# Altium footprint library base.PcbLib: 29 footprints (part 2 of 2)
Each footprint in its own frame and in the unit in brackets; x right, y up, seen from the top. Pads: shape width x height; smd on the part's side, far side on the other; paste and mask are expansions set on the pad; w line width, h text height; cw(c..) or ccw(c..) is an arc to the next point about the centre after c.
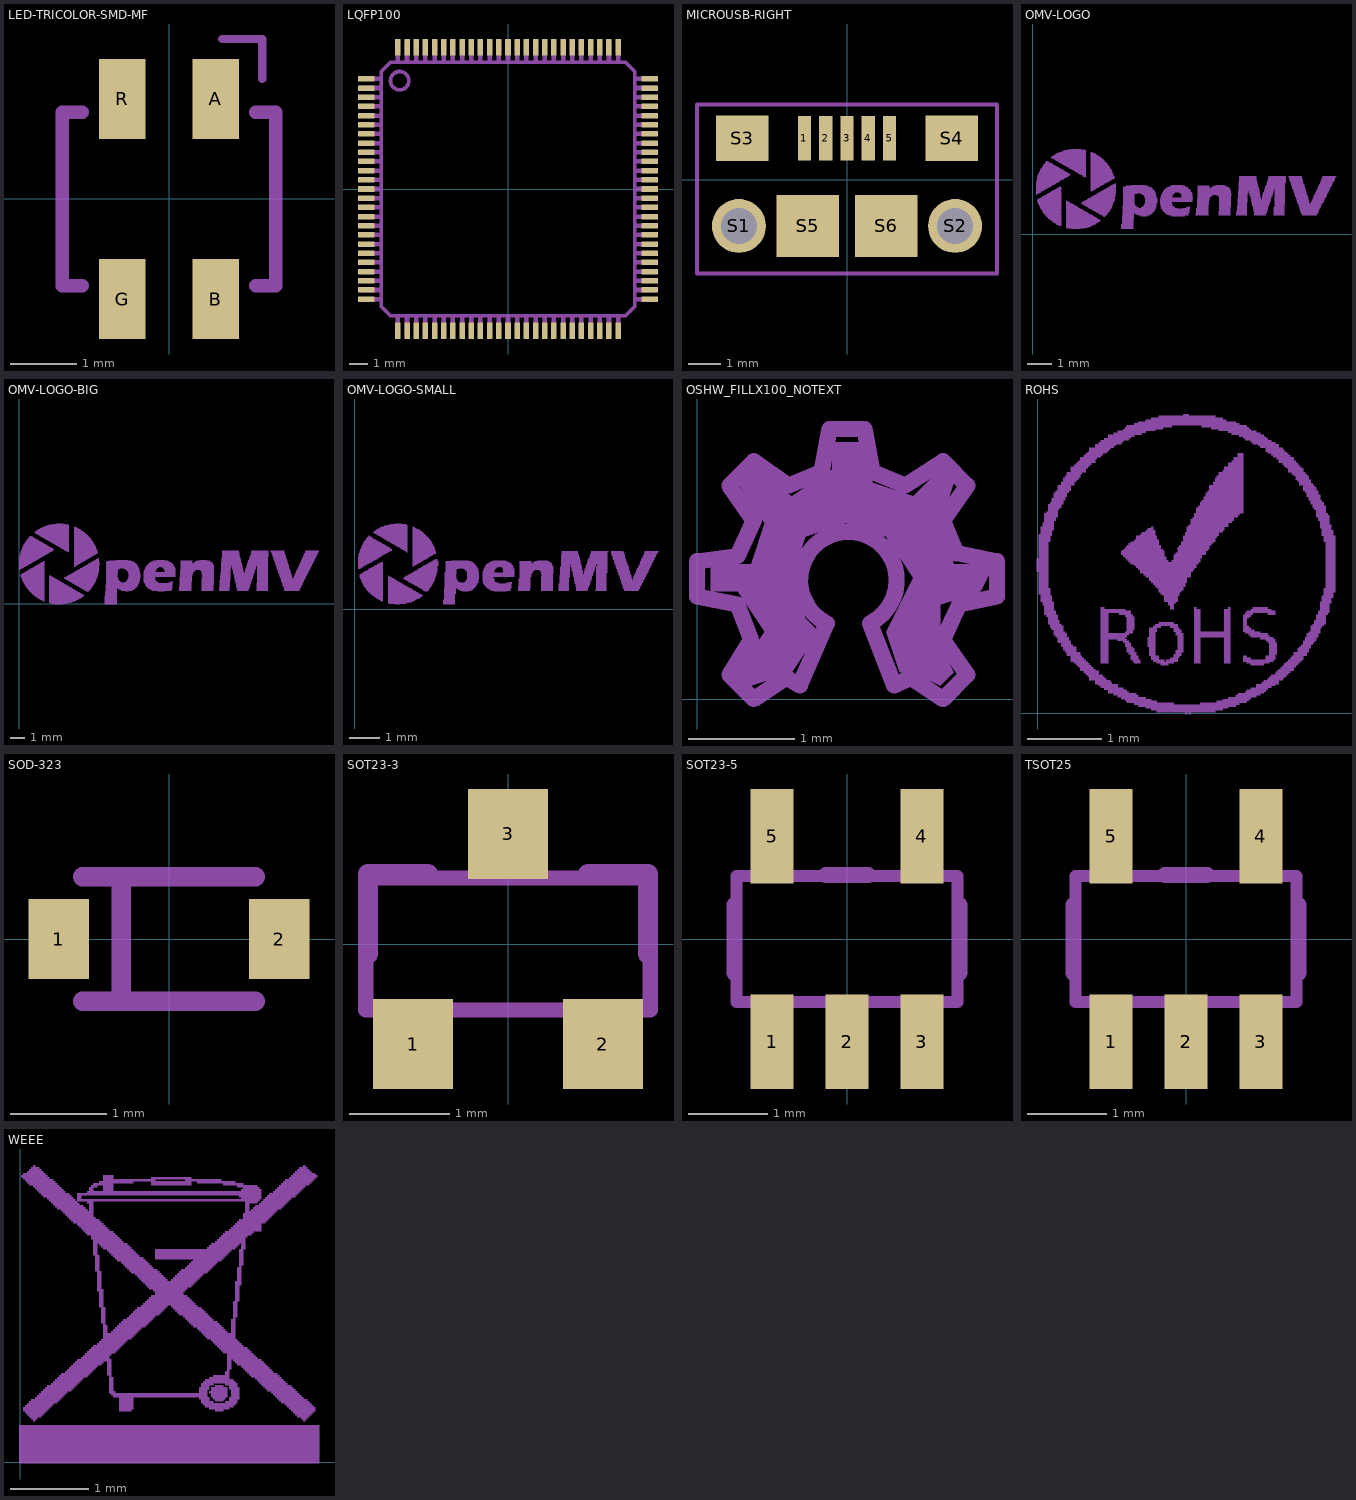
[diagram p1: the footprints below, top view; thin cyan lines are the x and y axes]

## LED-TRICOLOR-SMD-MF [mm] "LED-TRICOLOR-SMD-MF"
pads (4):
  rect 0.7x1.2 smd: A(0.7,1.5) B(0.7,-1.5) G(-0.7,-1.5) R(-0.7,1.5)
Mechanical 7:
  lines w0.127: 0.8,2.4 1.4,2.4 1.4,1.8
  lines w0.203: -1.3,-1.3 -1.6,-1.3 -1.6,1.3 -1.3,1.3 ; 1.3,-1.3 1.6,-1.3 1.6,1.3 1.3,1.3
3D body: height 1.27, standoff 0, extent -1.05,0.9 -0.35,2.1
3D body: height 1.27, standoff 0, extent 0.35,0.9 1.05,2.1
3D body: height 1.27, standoff 0, extent -1.05,-2.1 -0.35,-0.9
3D body: height 1.27, standoff 0, extent 0.35,-2.1 1.05,-0.9

## LQFP100 [mm] "LQFP100"
pads (100):
  rect 0.9x0.3 smd: 1(-7.72,6) 2(-7.72,5.5) 3(-7.72,5) 4(-7.72,4.5) 5(-7.72,4) 6(-7.72,3.5) 7(-7.72,3) 8(-7.72,2.5) 9(-7.72,2) 10(-7.72,1.5) 11(-7.72,1) 12(-7.72,0.5) 13(-7.72,0) 14(-7.72,-0.5) 15(-7.72,-1) 16(-7.72,-1.5) 17(-7.72,-2) 18(-7.72,-2.5) 19(-7.72,-3) 20(-7.72,-3.5) 21(-7.72,-4) 22(-7.72,-4.5) 23(-7.72,-5) 24(-7.72,-5.5) 25(-7.72,-6) 51(7.72,-6) 52(7.72,-5.5) 53(7.72,-5) 54(7.72,-4.5) 55(7.72,-4) 56(7.72,-3.5) 57(7.72,-3) 58(7.72,-2.5) 59(7.72,-2) 60(7.72,-1.5) 61(7.72,-1) 62(7.72,-0.5) 63(7.72,0) 64(7.72,0.5) 65(7.72,1) 66(7.72,1.5) 67(7.72,2) 68(7.72,2.5) 69(7.72,3) 70(7.72,3.5) 71(7.72,4) 72(7.72,4.5) 73(7.72,5) 74(7.72,5.5) 75(7.72,6)
  rect 0.3x0.9 smd: 26(-6,-7.72) 27(-5.5,-7.72) 28(-5,-7.72) 29(-4.5,-7.72) 30(-4,-7.72) 31(-3.5,-7.72) 32(-3,-7.72) 33(-2.5,-7.72) 34(-2,-7.72) 35(-1.5,-7.72) 36(-1,-7.72) 37(-0.5,-7.72) 38(0,-7.72) 39(0.5,-7.72) 40(1,-7.72) 41(1.5,-7.72) 42(2,-7.72) 43(2.5,-7.72) 44(3,-7.72) 45(3.5,-7.72) 46(4,-7.72) 47(4.5,-7.72) 48(5,-7.72) 49(5.5,-7.72) 50(6,-7.72) 76(6,7.72) 77(5.5,7.72) 78(5,7.72) 79(4.5,7.72) 80(4,7.72) 81(3.5,7.72) 82(3,7.72) 83(2.5,7.72) 84(2,7.72) 85(1.5,7.72) 86(1,7.72) 87(0.5,7.72) 88(0,7.72) 89(-0.5,7.72) 90(-1,7.72) 91(-1.5,7.72) 92(-2,7.72) 93(-2.5,7.72) 94(-3,7.72) 95(-3.5,7.72) 96(-4,7.72) 97(-4.5,7.72) 98(-5,7.72) 99(-5.5,7.72) 100(-6,7.72)
Mechanical 3:
  drawing of 100 lines, arcs and shapes, not listed
Mechanical 7:
  circle w0.203: c-5.9,5.9 r0.5
  lines w0.203: -6.9,-6.4 -6.9,6.4 -6.4,6.9 6.4,6.9 6.9,6.4 6.9,-6.4 6.4,-6.9 -6.4,-6.9 -6.9,-6.4
3D body: height 3.81, standoff 0, extent -8.03,5.89 -6.93,6.11
3D body: height 3.81, standoff 0, extent -8.03,5.39 -6.93,5.61
3D body: height 3.81, standoff 0, extent -8.03,4.89 -6.93,5.11
3D body: height 3.81, standoff 0, extent -8.03,4.39 -6.93,4.61
3D body: height 3.81, standoff 0, extent -8.03,3.89 -6.93,4.11
3D body: height 3.81, standoff 0, extent -8.03,3.39 -6.93,3.61
3D body: height 3.81, standoff 0, extent -8.03,2.89 -6.93,3.11
3D body: height 3.81, standoff 0, extent -8.03,2.39 -6.93,2.61
3D body: height 3.81, standoff 0, extent -8.03,1.89 -6.93,2.11
3D body: height 3.81, standoff 0, extent -8.03,1.39 -6.93,1.61
3D body: height 3.81, standoff 0, extent -8.03,0.89 -6.93,1.11
3D body: height 3.81, standoff 0, extent -8.03,0.39 -6.93,0.61
3D body: height 3.81, standoff 0, extent -8.03,-0.11 -6.93,0.11
3D body: height 3.81, standoff 0, extent -8.03,-0.61 -6.93,-0.39
3D body: height 3.81, standoff 0, extent -8.03,-1.11 -6.93,-0.89
3D body: height 3.81, standoff 0, extent -8.03,-1.61 -6.93,-1.39
3D body: height 3.81, standoff 0, extent -8.03,-2.11 -6.93,-1.89
3D body: height 3.81, standoff 0, extent -8.03,-2.61 -6.93,-2.39
3D body: height 3.81, standoff 0, extent -8.03,-3.11 -6.93,-2.89
3D body: height 3.81, standoff 0, extent -8.03,-3.61 -6.93,-3.39
3D body: height 3.81, standoff 0, extent -8.03,-4.11 -6.93,-3.89
3D body: height 3.81, standoff 0, extent -8.03,-4.61 -6.93,-4.39
3D body: height 3.81, standoff 0, extent -8.03,-5.11 -6.93,-4.89
3D body: height 3.81, standoff 0, extent -8.03,-5.61 -6.93,-5.39
3D body: height 3.81, standoff 0, extent -8.03,-6.11 -6.93,-5.89
3D body: height 3.81, standoff 0, extent -6.11,-8.03 -5.89,-6.93
3D body: height 3.81, standoff 0, extent -5.61,-8.03 -5.39,-6.93
3D body: height 3.81, standoff 0, extent -5.11,-8.03 -4.89,-6.93
3D body: height 3.81, standoff 0, extent -4.61,-8.03 -4.39,-6.93
3D body: height 3.81, standoff 0, extent -4.11,-8.03 -3.89,-6.93
3D body: height 3.81, standoff 0, extent -3.61,-8.03 -3.39,-6.93
3D body: height 3.81, standoff 0, extent -3.11,-8.03 -2.89,-6.93
3D body: height 3.81, standoff 0, extent -2.61,-8.03 -2.39,-6.93
3D body: height 3.81, standoff 0, extent -2.11,-8.03 -1.89,-6.93
3D body: height 3.81, standoff 0, extent -1.61,-8.03 -1.39,-6.93
3D body: height 3.81, standoff 0, extent -1.11,-8.03 -0.89,-6.93
3D body: height 3.81, standoff 0, extent -0.61,-8.03 -0.39,-6.93
3D body: height 3.81, standoff 0, extent -0.11,-8.03 0.11,-6.93
3D body: height 3.81, standoff 0, extent 0.39,-8.03 0.61,-6.93
3D body: height 3.81, standoff 0, extent 0.89,-8.03 1.11,-6.93
3D body: height 3.81, standoff 0, extent 1.39,-8.03 1.61,-6.93
3D body: height 3.81, standoff 0, extent 1.89,-8.03 2.11,-6.93
3D body: height 3.81, standoff 0, extent 2.39,-8.03 2.61,-6.93
3D body: height 3.81, standoff 0, extent 2.89,-8.03 3.11,-6.93
3D body: height 3.81, standoff 0, extent 3.39,-8.03 3.61,-6.93
3D body: height 3.81, standoff 0, extent 3.89,-8.03 4.11,-6.93
3D body: height 3.81, standoff 0, extent 4.39,-8.03 4.61,-6.93
3D body: height 3.81, standoff 0, extent 4.89,-8.03 5.11,-6.93
3D body: height 3.81, standoff 0, extent 5.39,-8.03 5.61,-6.93
3D body: height 3.81, standoff 0, extent 5.89,-8.03 6.11,-6.93
3D body: height 3.81, standoff 0, extent 6.93,-6.11 8.03,-5.89
3D body: height 3.81, standoff 0, extent 6.93,-5.61 8.03,-5.39
3D body: height 3.81, standoff 0, extent 6.93,-5.11 8.03,-4.89
3D body: height 3.81, standoff 0, extent 6.93,-4.61 8.03,-4.39
3D body: height 3.81, standoff 0, extent 6.93,-4.11 8.03,-3.89
3D body: height 3.81, standoff 0, extent 6.93,-3.61 8.03,-3.39
3D body: height 3.81, standoff 0, extent 6.93,-3.11 8.03,-2.89
3D body: height 3.81, standoff 0, extent 6.93,-2.61 8.03,-2.39
3D body: height 3.81, standoff 0, extent 6.93,-2.11 8.03,-1.89
3D body: height 3.81, standoff 0, extent 6.93,-1.61 8.03,-1.39
3D body: height 3.81, standoff 0, extent 6.93,-1.11 8.03,-0.89
3D body: height 3.81, standoff 0, extent 6.93,-0.61 8.03,-0.39
3D body: height 3.81, standoff 0, extent 6.93,-0.11 8.03,0.11
3D body: height 3.81, standoff 0, extent 6.93,0.39 8.03,0.61
3D body: height 3.81, standoff 0, extent 6.93,0.89 8.03,1.11
3D body: height 3.81, standoff 0, extent 6.93,1.39 8.03,1.61
3D body: height 3.81, standoff 0, extent 6.93,1.89 8.03,2.11
3D body: height 3.81, standoff 0, extent 6.93,2.39 8.03,2.61
3D body: height 3.81, standoff 0, extent 6.93,2.89 8.03,3.11
3D body: height 3.81, standoff 0, extent 6.93,3.39 8.03,3.61
3D body: height 3.81, standoff 0, extent 6.93,3.89 8.03,4.11
3D body: height 3.81, standoff 0, extent 6.93,4.39 8.03,4.61
3D body: height 3.81, standoff 0, extent 6.93,4.89 8.03,5.11
3D body: height 3.81, standoff 0, extent 6.93,5.39 8.03,5.61
3D body: height 3.81, standoff 0, extent 6.93,5.89 8.03,6.11
3D body: height 3.81, standoff 0, extent 5.89,6.93 6.11,8.03
3D body: height 3.81, standoff 0, extent 5.39,6.93 5.61,8.03
3D body: height 3.81, standoff 0, extent 4.89,6.93 5.11,8.03
3D body: height 3.81, standoff 0, extent 4.39,6.93 4.61,8.03
3D body: height 3.81, standoff 0, extent 3.89,6.93 4.11,8.03
3D body: height 3.81, standoff 0, extent 3.39,6.93 3.61,8.03
3D body: height 3.81, standoff 0, extent 2.89,6.93 3.11,8.03
3D body: height 3.81, standoff 0, extent 2.39,6.93 2.61,8.03
3D body: height 3.81, standoff 0, extent 1.89,6.93 2.11,8.03
3D body: height 3.81, standoff 0, extent 1.39,6.93 1.61,8.03
3D body: height 3.81, standoff 0, extent 0.89,6.93 1.11,8.03
3D body: height 3.81, standoff 0, extent 0.39,6.93 0.61,8.03
3D body: height 3.81, standoff 0, extent -0.11,6.93 0.11,8.03
3D body: height 3.81, standoff 0, extent -0.61,6.93 -0.39,8.03
3D body: height 3.81, standoff 0, extent -1.11,6.93 -0.89,8.03
3D body: height 3.81, standoff 0, extent -1.61,6.93 -1.39,8.03
3D body: height 3.81, standoff 0, extent -2.11,6.93 -1.89,8.03
3D body: height 3.81, standoff 0, extent -2.61,6.93 -2.39,8.03
3D body: height 3.81, standoff 0, extent -3.11,6.93 -2.89,8.03
3D body: height 3.81, standoff 0, extent -3.61,6.93 -3.39,8.03
3D body: height 3.81, standoff 0, extent -4.11,6.93 -3.89,8.03
3D body: height 3.81, standoff 0, extent -4.61,6.93 -4.39,8.03
3D body: height 3.81, standoff 0, extent -5.11,6.93 -4.89,8.03
3D body: height 3.81, standoff 0, extent -5.61,6.93 -5.39,8.03
3D body: height 3.81, standoff 0, extent -6.11,6.93 -5.89,8.03
3D body: height 1.27, standoff 0, extent -8.17,5.85 -7.27,6.15
3D body: height 1.27, standoff 0, extent -8.17,5.35 -7.27,5.65
3D body: height 1.27, standoff 0, extent -8.17,4.85 -7.27,5.15
3D body: height 1.27, standoff 0, extent -8.17,4.35 -7.27,4.65
3D body: height 1.27, standoff 0, extent -8.17,3.85 -7.27,4.15
3D body: height 1.27, standoff 0, extent -8.17,3.35 -7.27,3.65
3D body: height 1.27, standoff 0, extent -8.17,2.85 -7.27,3.15
3D body: height 1.27, standoff 0, extent -8.17,2.35 -7.27,2.65
3D body: height 1.27, standoff 0, extent -8.17,1.85 -7.27,2.15
3D body: height 1.27, standoff 0, extent -8.17,1.35 -7.27,1.65
3D body: height 1.27, standoff 0, extent -8.17,0.85 -7.27,1.15
3D body: height 1.27, standoff 0, extent -8.17,0.35 -7.27,0.65
3D body: height 1.27, standoff 0, extent -8.17,-0.15 -7.27,0.15
3D body: height 1.27, standoff 0, extent -8.17,-0.65 -7.27,-0.35
3D body: height 1.27, standoff 0, extent -8.17,-1.15 -7.27,-0.85
3D body: height 1.27, standoff 0, extent -8.17,-1.65 -7.27,-1.35
3D body: height 1.27, standoff 0, extent -8.17,-2.15 -7.27,-1.85
3D body: height 1.27, standoff 0, extent -8.17,-2.65 -7.27,-2.35
3D body: height 1.27, standoff 0, extent -8.17,-3.15 -7.27,-2.85
3D body: height 1.27, standoff 0, extent -8.17,-3.65 -7.27,-3.35
3D body: height 1.27, standoff 0, extent -8.17,-4.15 -7.27,-3.85
3D body: height 1.27, standoff 0, extent -8.17,-4.65 -7.27,-4.35
3D body: height 1.27, standoff 0, extent -8.17,-5.15 -7.27,-4.85
3D body: height 1.27, standoff 0, extent -8.17,-5.65 -7.27,-5.35
3D body: height 1.27, standoff 0, extent -8.17,-6.15 -7.27,-5.85
3D body: height 1.27, standoff 0, extent -6.15,-8.17 -5.85,-7.27
3D body: height 1.27, standoff 0, extent -5.65,-8.17 -5.35,-7.27
3D body: height 1.27, standoff 0, extent -5.15,-8.17 -4.85,-7.27
3D body: height 1.27, standoff 0, extent -4.65,-8.17 -4.35,-7.27
3D body: height 1.27, standoff 0, extent -4.15,-8.17 -3.85,-7.27
3D body: height 1.27, standoff 0, extent -3.65,-8.17 -3.35,-7.27
3D body: height 1.27, standoff 0, extent -3.15,-8.17 -2.85,-7.27
3D body: height 1.27, standoff 0, extent -2.65,-8.17 -2.35,-7.27
3D body: height 1.27, standoff 0, extent -2.15,-8.17 -1.85,-7.27
3D body: height 1.27, standoff 0, extent -1.65,-8.17 -1.35,-7.27
3D body: height 1.27, standoff 0, extent -1.15,-8.17 -0.85,-7.27
3D body: height 1.27, standoff 0, extent -0.65,-8.17 -0.35,-7.27
3D body: height 1.27, standoff 0, extent -0.15,-8.17 0.15,-7.27
3D body: height 1.27, standoff 0, extent 0.35,-8.17 0.65,-7.27
3D body: height 1.27, standoff 0, extent 0.85,-8.17 1.15,-7.27
3D body: height 1.27, standoff 0, extent 1.35,-8.17 1.65,-7.27
3D body: height 1.27, standoff 0, extent 1.85,-8.17 2.15,-7.27
3D body: height 1.27, standoff 0, extent 2.35,-8.17 2.65,-7.27
3D body: height 1.27, standoff 0, extent 2.85,-8.17 3.15,-7.27
3D body: height 1.27, standoff 0, extent 3.35,-8.17 3.65,-7.27
3D body: height 1.27, standoff 0, extent 3.85,-8.17 4.15,-7.27
3D body: height 1.27, standoff 0, extent 4.35,-8.17 4.65,-7.27
3D body: height 1.27, standoff 0, extent 4.85,-8.17 5.15,-7.27
3D body: height 1.27, standoff 0, extent 5.35,-8.17 5.65,-7.27
3D body: height 1.27, standoff 0, extent 5.85,-8.17 6.15,-7.27
3D body: height 1.27, standoff 0, extent 7.27,-6.15 8.17,-5.85
3D body: height 1.27, standoff 0, extent 7.27,-5.65 8.17,-5.35
3D body: height 1.27, standoff 0, extent 7.27,-5.15 8.17,-4.85
3D body: height 1.27, standoff 0, extent 7.27,-4.65 8.17,-4.35
3D body: height 1.27, standoff 0, extent 7.27,-4.15 8.17,-3.85
3D body: height 1.27, standoff 0, extent 7.27,-3.65 8.17,-3.35
3D body: height 1.27, standoff 0, extent 7.27,-3.15 8.17,-2.85
3D body: height 1.27, standoff 0, extent 7.27,-2.65 8.17,-2.35
3D body: height 1.27, standoff 0, extent 7.27,-2.15 8.17,-1.85
3D body: height 1.27, standoff 0, extent 7.27,-1.65 8.17,-1.35
3D body: height 1.27, standoff 0, extent 7.27,-1.15 8.17,-0.85
3D body: height 1.27, standoff 0, extent 7.27,-0.65 8.17,-0.35
3D body: height 1.27, standoff 0, extent 7.27,-0.15 8.17,0.15
3D body: height 1.27, standoff 0, extent 7.27,0.35 8.17,0.65
3D body: height 1.27, standoff 0, extent 7.27,0.85 8.17,1.15
3D body: height 1.27, standoff 0, extent 7.27,1.35 8.17,1.65
3D body: height 1.27, standoff 0, extent 7.27,1.85 8.17,2.15
3D body: height 1.27, standoff 0, extent 7.27,2.35 8.17,2.65
3D body: height 1.27, standoff 0, extent 7.27,2.85 8.17,3.15
3D body: height 1.27, standoff 0, extent 7.27,3.35 8.17,3.65
3D body: height 1.27, standoff 0, extent 7.27,3.85 8.17,4.15
3D body: height 1.27, standoff 0, extent 7.27,4.35 8.17,4.65
3D body: height 1.27, standoff 0, extent 7.27,4.85 8.17,5.15
3D body: height 1.27, standoff 0, extent 7.27,5.35 8.17,5.65
3D body: height 1.27, standoff 0, extent 7.27,5.85 8.17,6.15
3D body: height 1.27, standoff 0, extent 5.85,7.27 6.15,8.17
3D body: height 1.27, standoff 0, extent 5.35,7.27 5.65,8.17
3D body: height 1.27, standoff 0, extent 4.85,7.27 5.15,8.17
3D body: height 1.27, standoff 0, extent 4.35,7.27 4.65,8.17
3D body: height 1.27, standoff 0, extent 3.85,7.27 4.15,8.17
3D body: height 1.27, standoff 0, extent 3.35,7.27 3.65,8.17
3D body: height 1.27, standoff 0, extent 2.85,7.27 3.15,8.17
3D body: height 1.27, standoff 0, extent 2.35,7.27 2.65,8.17
3D body: height 1.27, standoff 0, extent 1.85,7.27 2.15,8.17
3D body: height 1.27, standoff 0, extent 1.35,7.27 1.65,8.17
3D body: height 1.27, standoff 0, extent 0.85,7.27 1.15,8.17
3D body: height 1.27, standoff 0, extent 0.35,7.27 0.65,8.17
3D body: height 1.27, standoff 0, extent -0.15,7.27 0.15,8.17
3D body: height 1.27, standoff 0, extent -0.65,7.27 -0.35,8.17
3D body: height 1.27, standoff 0, extent -1.15,7.27 -0.85,8.17
3D body: height 1.27, standoff 0, extent -1.65,7.27 -1.35,8.17
3D body: height 1.27, standoff 0, extent -2.15,7.27 -1.85,8.17
3D body: height 1.27, standoff 0, extent -2.65,7.27 -2.35,8.17
3D body: height 1.27, standoff 0, extent -3.15,7.27 -2.85,8.17
3D body: height 1.27, standoff 0, extent -3.65,7.27 -3.35,8.17
3D body: height 1.27, standoff 0, extent -4.15,7.27 -3.85,8.17
3D body: height 1.27, standoff 0, extent -4.65,7.27 -4.35,8.17
3D body: height 1.27, standoff 0, extent -5.15,7.27 -4.85,8.17
3D body: height 1.27, standoff 0, extent -5.65,7.27 -5.35,8.17
3D body: height 1.27, standoff 0, extent -6.15,7.27 -5.85,8.17

## MICROUSB-RIGHT [mm] "MICROUSB-RIGHT"
pads (11):
  rect 0.4x1.35 smd: 1(-1.3,1.27) 2(-0.65,1.27) 3(0,1.27) 4(0.65,1.27) 5(1.3,1.27)
  round 1.65 / inner round 1.524 / far side round 1.65 hole 1.1: S1(-3.3,-1.405) S2(3.3,-1.405)
  rect 1.6x1.4 smd: S3(-3.2,1.27) S4(3.2,1.27)
  rect 1.9x1.9 smd: S5(-1.2,-1.405) S6(1.2,-1.405)
Mechanical 7:
  lines w0.127: -4.58,-2.855 4.58,-2.855 4.58,2.3 -4.58,2.3 -4.58,-2.855
3D body: height 1.27, standoff 0, extent -0.2,0.595 0.2,1.945
3D body: height 1.27, standoff 0, extent 0.45,0.595 0.85,1.945
3D body: height 1.27, standoff 0, extent -0.85,0.595 -0.45,1.945
3D body: height 1.27, standoff 0, extent -1.5,0.595 -1.1,1.945
3D body: height 1.27, standoff 0, extent 1.1,0.595 1.5,1.945
3D body: height 1.27, standoff 0, extent -4,0.57 -2.4,1.97
3D body: height 1.27, standoff 0, extent 2.4,0.57 4,1.97
3D body: height 1.27, standoff 0, extent -2.15,-2.355 -0.25,-0.455
3D body: height 1.27, standoff 0, extent 0.25,-2.355 2.15,-0.455
3D body: height 1.27, standoff 0, extent 2.531,-2.174 4.069,-0.637
3D body: height 1.27, standoff 0, extent -4.069,-2.174 -2.531,-0.637

## OMV-LOGO [mm] "OMV-LOGO"
Mechanical 8:
  drawing of 881 lines, arcs and shapes, not listed

## OMV-LOGO-BIG [mm] "OMV-LOGO-BIG"
Mechanical 7:
  drawing of 1452 lines, arcs and shapes, not listed

## OMV-LOGO-SMALL [mm] "OMV-LOGO-SMALL"
Mechanical 7:
  drawing of 701 lines, arcs and shapes, not listed

## OSHW_FILLX100_NOTEXT [mm] "OSHW_FILLX100_NOTEXT"
Mechanical 7:
  region: 0.889,0.254 0.508,0.127 0.381,0.254 0.635,0.635 0.381,1.016 0.127,1.016 0.127,1.27 0.508,1.27 0.635,1.651 0.381,2.032 0.508,2.159 0.889,1.905 1.27,2.159 1.27,2.413 1.524,2.413 1.651,2.032 2.032,1.905 2.286,2.159 2.413,2.032 2.286,1.651 2.413,1.27 2.794,1.27 2.667,1.016 2.286,0.889 2.286,0.508 2.413,0.254 2.286,0.127 2.032,0.254 1.905,0.254 1.778,0.635 2.032,1.143 1.778,1.524 1.397,1.651 1.016,1.524 0.889,1.143 1.016,0.762 1.143,0.635
  lines w0.152: 0,0.965 0.381,0.889 0.508,0.559 0.305,0.229 0.533,0 0.838,0.203 0.965,0.127 1.219,0.711 cw(c1.422,1.118) 1.626,0.711 1.854,0.127 2.007,0.203 2.311,0 2.54,0.229 2.311,0.559 2.464,0.889 2.819,0.965 2.819,1.295 2.438,1.372 2.311,1.676 2.54,2.007 2.311,2.235 1.956,2.007 1.651,2.134 1.575,2.54 1.245,2.54 1.168,2.134 0.864,2.007 0.533,2.235 0.305,2.007 0.533,1.676 0.381,1.346 0,1.295 0,0.965

## ROHS [mm] "ROHS"
Mechanical 8:
  drawing of 599 lines, arcs and shapes, not listed

## SOD-323 [mm] "SOD-323"
pads (2):
  rect 0.63x0.83 smd: 1(-1.15,0) 2(1.15,0)
Mechanical 7:
  lines w0.203: -0.9,-0.65 -0.5,-0.65 ; -0.9,0.65 -0.5,0.65 ; 0.9,-0.65 -0.5,-0.65 ; 0.9,0.65 -0.5,0.65 ; -0.5,-0.65 -0.5,0.65
3D body: height 1.27, standoff 0, extent -1.465,-0.415 -0.835,0.415
3D body: height 1.27, standoff 0, extent 0.835,-0.415 1.465,0.415

## SOT23-3 [mil] "SOT23-3"
pads (3):
  rect 31.5x35.43 smd: 1(-37.4,-39.37) 2(37.4,-39.37) 3(0,43.31)
Mechanical 3:
  lines w6: -56,-26 56,-26 56,26 -56,26 -56,-26
Mechanical 7:
  lines w8: -55.12,-3.94 -55.12,27.56 -31.5,27.56 ; 31.5,27.56 55.12,27.56 55.12,-3.94
3D body: height 150, standoff 0, extent 52.75,-29.25 59.25,29.25
3D body: height 150, standoff 0, extent -59.25,-29.25 59.25,-22.75
3D body: height 150, standoff 0, extent -59.25,-29.25 -52.75,29.25
3D body: height 150, standoff 0, extent -59.25,22.75 59.25,29.25
3D body: height 50, standoff 0, extent -15.75,25.59 15.75,61.02
3D body: height 50, standoff 0, extent 21.65,-57.09 53.15,-21.66
3D body: height 50, standoff 0, extent -53.15,-57.09 -21.65,-21.66

## SOT23-5 [mm] "SOT23-5"
pads (5):
  rect 0.55x1.2 smd: 1(-0.95,-1.3) 2(0,-1.3) 3(0.95,-1.3) 4(0.95,1.3) 5(-0.95,1.3)
Mechanical 3:
  region: -1.2,-1.5 -1.2,-0.85 -0.7,-0.85 -0.7,-1.5
  region: -0.25,-1.5 -0.25,-0.85 0.25,-0.85 0.25,-1.5
  region: 0.7,-1.5 0.7,-0.85 1.2,-0.85 1.2,-1.5
  region: 0.7,0.85 0.7,1.5 1.2,1.5 1.2,0.85
  region: -1.2,0.85 -1.2,1.5 -0.7,1.5 -0.7,0.85
  lines w0.152: -1.4,-0.8 1.4,-0.8 1.4,0.8 -1.4,0.8 -1.4,-0.8
Mechanical 7:
  lines w0.203: -1.422,-0.43 -1.422,0.43 ; -0.268,0.811 0.268,0.811 ; 1.422,-0.43 1.422,0.43
3D body: height 3.81, standoff 0, extent -1.483,-0.883 1.483,-0.718
3D body: height 3.81, standoff 0, extent -1.483,0.718 1.483,0.883
3D body: height 3.81, standoff 0, extent 1.318,-0.883 1.483,0.883
3D body: height 3.81, standoff 0, extent -1.483,-0.883 -1.318,0.883
3D body: height 3.81, standoff 0, extent -1.2,-1.5 -0.7,-0.85
3D body: height 3.81, standoff 0, extent -0.25,-1.5 0.25,-0.85
3D body: height 3.81, standoff 0, extent 0.7,-1.5 1.2,-0.85
3D body: height 3.81, standoff 0, extent 0.7,0.85 1.2,1.5
3D body: height 3.81, standoff 0, extent -1.2,0.85 -0.7,1.5
3D body: height 1.27, standoff 0, extent -1.225,-1.9 -0.675,-0.7
3D body: height 1.27, standoff 0, extent -0.275,-1.9 0.275,-0.7
3D body: height 1.27, standoff 0, extent 0.675,-1.9 1.225,-0.7
3D body: height 1.27, standoff 0, extent 0.675,0.7 1.225,1.9
3D body: height 1.27, standoff 0, extent -1.225,0.7 -0.675,1.9

## TSOT25 [mm] "TSOT25"
pads (5):
  rect 0.55x1.2 smd: 1(-0.95,-1.3) 2(0,-1.3) 3(0.95,-1.3) 4(0.95,1.3) 5(-0.95,1.3)
Mechanical 3:
  region: -1.2,-1.5 -1.2,-0.85 -0.7,-0.85 -0.7,-1.5
  region: -0.25,-1.5 -0.25,-0.85 0.25,-0.85 0.25,-1.5
  region: 0.7,-1.5 0.7,-0.85 1.2,-0.85 1.2,-1.5
  region: 0.7,0.85 0.7,1.5 1.2,1.5 1.2,0.85
  region: -1.2,0.85 -1.2,1.5 -0.7,1.5 -0.7,0.85
  lines w0.152: -1.4,-0.8 1.4,-0.8 1.4,0.8 -1.4,0.8 -1.4,-0.8
Mechanical 7:
  lines w0.203: -1.422,-0.43 -1.422,0.43 ; -0.268,0.811 0.268,0.811 ; 1.422,-0.43 1.422,0.43
3D body: height 3.81, standoff 0, extent -1.483,-0.883 1.483,-0.718
3D body: height 3.81, standoff 0, extent -1.483,0.718 1.483,0.883
3D body: height 3.81, standoff 0, extent 1.318,-0.883 1.483,0.883
3D body: height 3.81, standoff 0, extent -1.483,-0.883 -1.318,0.883
3D body: height 3.81, standoff 0, extent -1.2,-1.5 -0.7,-0.85
3D body: height 3.81, standoff 0, extent -0.25,-1.5 0.25,-0.85
3D body: height 3.81, standoff 0, extent 0.7,-1.5 1.2,-0.85
3D body: height 3.81, standoff 0, extent 0.7,0.85 1.2,1.5
3D body: height 3.81, standoff 0, extent -1.2,0.85 -0.7,1.5
3D body: height 1.27, standoff 0, extent -1.225,-1.9 -0.675,-0.7
3D body: height 1.27, standoff 0, extent -0.275,-1.9 0.275,-0.7
3D body: height 1.27, standoff 0, extent 0.675,-1.9 1.225,-0.7
3D body: height 1.27, standoff 0, extent 0.675,0.7 1.225,1.9
3D body: height 1.27, standoff 0, extent -1.225,0.7 -0.675,1.9

## WEEE [mm] "WEEE"
Mechanical 8:
  drawing of 457 lines, arcs and shapes, not listed